# Altium schematic symbol library 692141030100.SchLib: 1 symbol
Pins are listed as number, name and electrical type; pins without a type are passive.

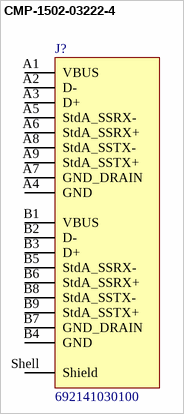
[diagram p0: symbol CMP-1502-03222-4]

## CMP-1502-03222-4
designator J?, comment 692141030100
Wr-com, Right Angle Version 3.0; Connector, Through Hole Socket, 30 V, 250MA; Gender: Receptacle; Voltage Rating (AC): 30V; Number of Ports: 2; Connector Type: USB; USB Standard: USB 3.0; Contact Resistance: 50mΩ; Insulation Resistance: 100MΩ; Number of Contacts: 18; Min Operating Temperature: -40°C; REACH SVHC: Unknown; Features: Shielded; Contact Plating: Gold; Max Operating Temperature: 85°C; Current Rating: 250mA; Length: 15.59mm; Orientation: Right Angle; Voltage Rating: 30V; Contact Material: Gold, Nickel; Operating Supply Voltage: 30V; Lead Free: Lead Free; Termination: Through Hole; Number of Pins: 18; Mount: Horizontal, Through Hole; Color: Blue; Flammability Rating: UL94 V-0; Height: 16.335mm; Width: 19.7mm; RoHS: Compliant
footprint 692141030100 (USB 3.0 Type A Stacked)
pins: A1 VBUS, A2 D-, A3 D+, A4 GND, A5 StdA_SSRX-, A6 StdA_SSRX+, A7 GND_DRAIN, A8 StdA_SSTX-, A9 StdA_SSTX+, B1 VBUS, B2 D-, B3 D+, B4 GND, B5 StdA_SSRX-, B6 StdA_SSRX+, B7 GND_DRAIN, B8 StdA_SSTX-, B9 StdA_SSTX+, Shell Shield